# EAGLE library part NRF_SMD_MODULE (library FreeHands_master_lib)
https://ru.aliexpress.com/item/Free-shipping-10pcs-lot-SMD-MINI-NRF24L01-wireless-data-transmission-module-Mini-NRF24L01-wireless-module/32229358541.html?spm=2114.10010208.1000014.6.CMHX5a&scm=1007.13338.49930.0&pvid=38a32334-a471-470c-ae0c-716bc201fb29&tpp=1&detailNewVersion=&categoryId=400103
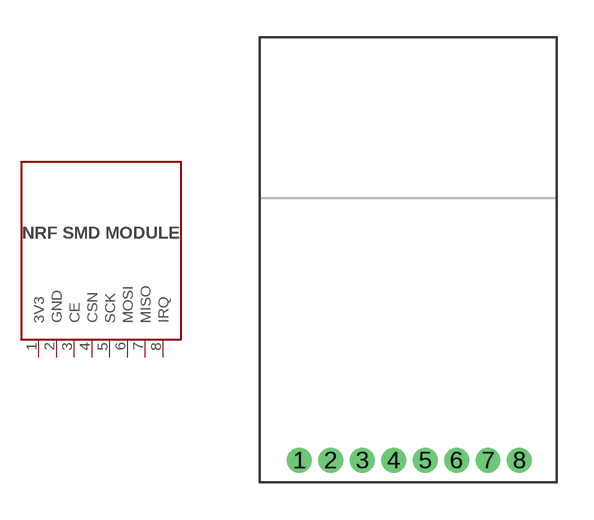
[diagram p3: symbol with the pads of NRF_SMD_MODULE; footprint NRF_SMD_MODULE]

Designator prefix MODULE

## NRF_SMD_MODULE  [NRF_SMD_MODULE]
1  3V3
2  GND
3  CE
4  CSN
5  SCK
6  MOSI
7  MISO
8  IRQ

## Footprint NRF_SMD_MODULE (pad centres in mm)
drill 0.5 pad 0.85: 1 -4.4,-8.1; 2 -3.13,-8.1; 3 -1.86,-8.1; 4 -0.59,-8.1; 5 0.68,-8.1; 6 1.95,-8.1; 7 3.22,-8.1; 8 4.49,-8.1